# Altium schematic symbol library LM386M-1_NOPB.SchLib: 1 symbol
Pins are listed as number, name and electrical type; pins without a type are passive.

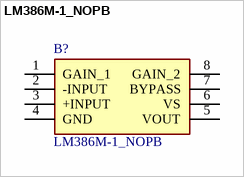
[diagram p0: symbol LM386M-1_NOPB]

## LM386M-1_NOPB
designator B?
Wide Input Voltage Low Power Audio Amplifier with Internal Gain; Manufacturer_Name: Texas Instruments; Manufacturer_Part_Number: LM386M-1/NOPB; Geometry.Height: 1.75mm; Mouser Part Number: 926-LM386M-1/NOPB; Mouser Price/Stock: https://www.mouser.co.uk/ProductDetail/Texas-Instruments/LM386M-1-NOPB?qs=QbsRYf82W3GaJvrwUmrW3g%3D%3D; Arrow Part Number: LM386M-1/NOPB; Arrow Price/Stock: https://www.arrow.com/en/products/lm386m-1nopb/texas-instruments?region=nac; Datasheet Link: https://datasheet.datasheetarchive.com/originals/distributors/Datasheets-SFU2/DSASFU100035547.pdf
footprint SOIC127P600X175-8N
pins: 1 GAIN_1, 2 -INPUT, 3 +INPUT, 4 GND, 5 VOUT, 6 VS, 7 BYPASS, 8 GAIN_2